# EAGLE library part J-M9-? (library VIO_module)
Jack connector, male, 9 poles
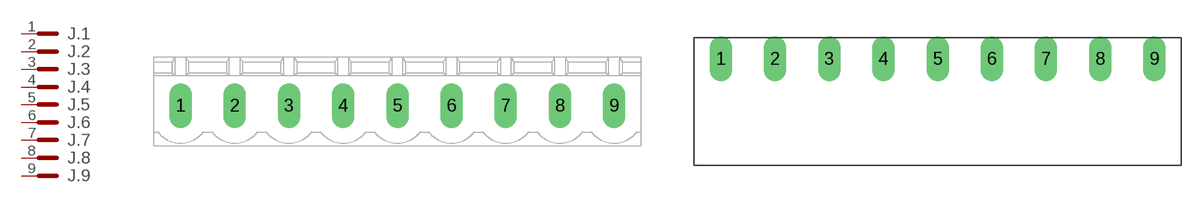
[diagram p6: symbol with the pads of J-M9-TB508HH; footprints J-M9-TB508HH, J-M9-TB508HV]

Designator prefix J; gates .1=J-M1 .2=J-M1 .3=J-M1 .4=J-M1 .5=J-M1 .6=J-M1 .7=J-M1 .8=J-M1 .9=J-M1

## J-M9-TB508H  [J-M9-TB508HH]
1  .1:1  pas
2  .2:1  pas
3  .3:1  pas
4  .4:1  pas
5  .5:1  pas
6  .6:1  pas
7  .7:1  pas
8  .8:1  pas
9  .9:1  pas

## J-M9-TB508HV  [J-M9-TB508HV]
Pads as for J-M9-TB508HH

## Footprint J-M9-TB508HH (pad centres in mm)
Jack, male 9 pin, terminal block header, 200 mil horizontal
drill 1.4 long: 1 -20.32,0; 2 -15.24,0; 3 -10.16,0; 4 -5.08,0; 5 0,0; 6 5.08,0; 7 10.16,0; 8 15.24,0; 9 20.32,0

## Footprint J-M9-TB508HV (pad centres in mm)
drill 1.4 long: 1 0,0; 2 5.08,0; 3 10.16,0; 4 15.24,0; 5 20.32,0; 6 25.4,0; 7 30.48,0; 8 35.56,0; 9 40.64,0